# Altium footprint library FTOK_pcblib.PcbLib: 11 footprints
Each footprint in its own frame and in the unit in brackets; x right, y up, seen from the top. Pads: shape width x height; smd on the part's side, far side on the other; paste and mask are expansions set on the pad; w line width, h text height; cw(c..) or ccw(c..) is an arc to the next point about the centre after c.
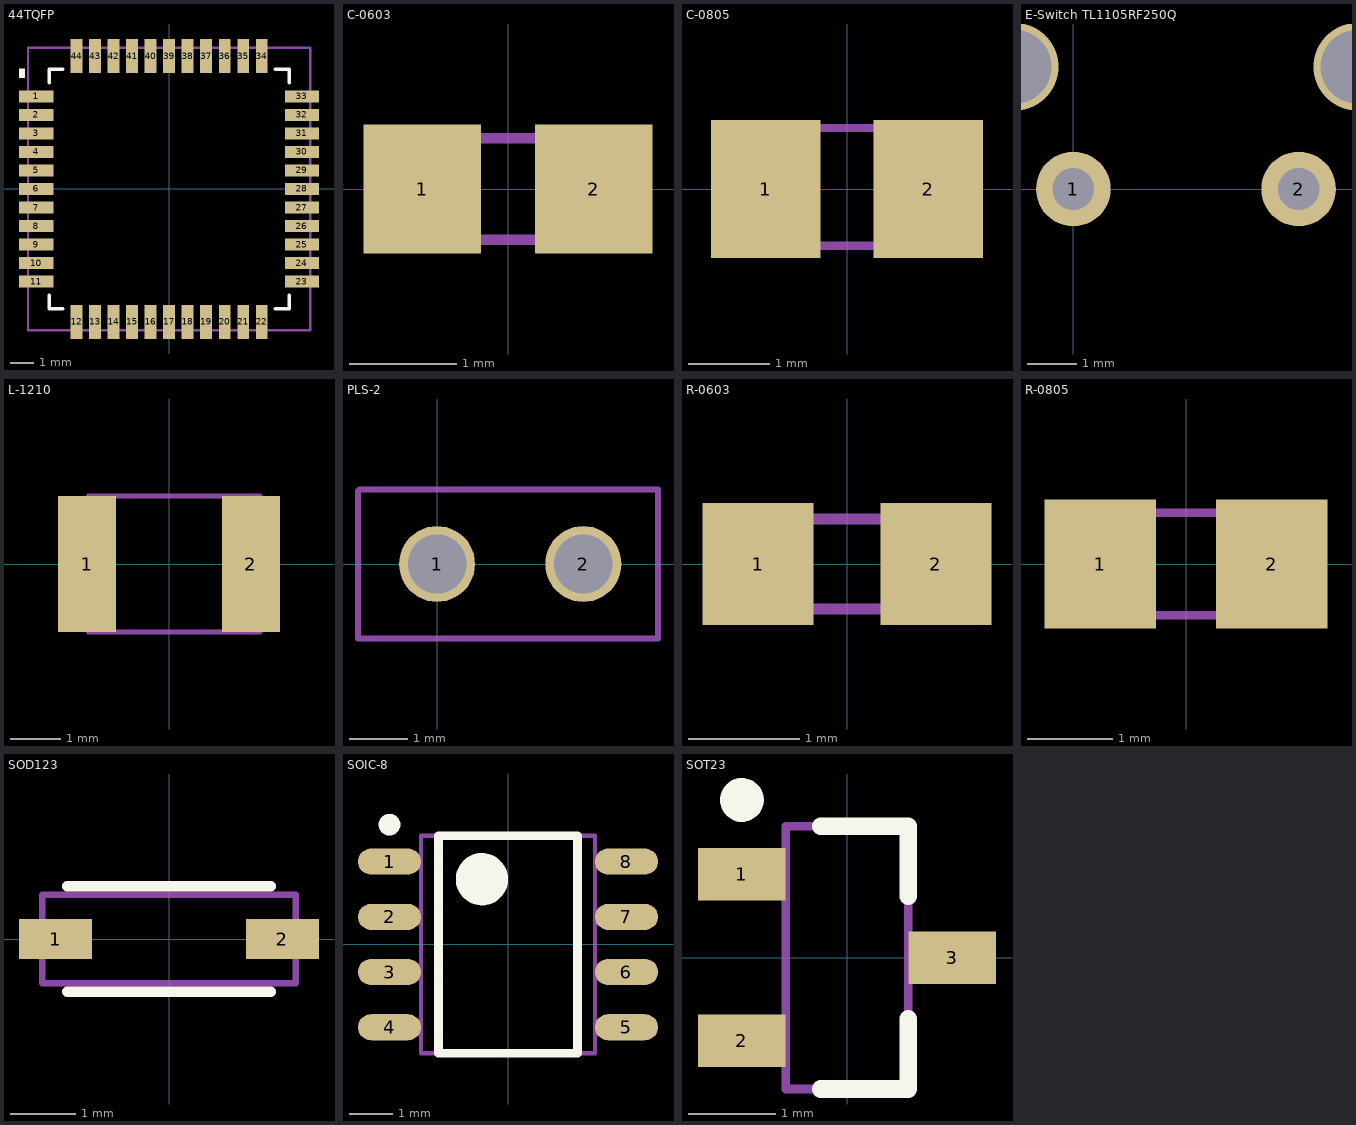
[diagram p0: the footprints below, top view; thin cyan lines are the x and y axes]

## 44TQFP [mil]
pads (44):
  rect 58x20 smd: 1(-226,157.48) 2(-226,125.98) 3(-226,94.49) 4(-226,62.99) 5(-226,31.5) 6(-226,0) 7(-226,-31.5) 8(-226,-62.99) 9(-226,-94.49) 10(-226,-125.98) 11(-226,-157.48) 23(226,-157.48) 24(226,-125.98) 25(226,-94.49) 26(226,-62.99) 27(226,-31.5) 28(226,0) 29(226,31.5) 30(226,62.99) 31(226,94.49) 32(226,125.98) 33(226,157.48)
  rect 20x58 smd: 12(-157.48,-226) 13(-125.98,-226) 14(-94.49,-226) 15(-62.99,-226) 16(-31.5,-226) 17(0,-226) 18(31.5,-226) 19(62.99,-226) 20(94.49,-226) 21(125.98,-226) 22(157.48,-226) 34(157.48,226) 35(125.98,226) 36(94.49,226) 37(62.99,226) 38(31.5,226) 39(0,226) 40(-31.5,226) 41(-62.99,226) 42(-94.49,226) 43(-125.98,226) 44(-157.48,226)
Top Overlay:
  region: -245.31,204.35 -255.31,204.35 -255.31,189.35 -245.31,189.35
  lines w6: -204,-180.58 -204,-204 -180.58,-204 ; -204,180.58 -204,204 -180.58,204 ; 180.58,-204 204,-204 204,-180.58 ; 180.58,204 204,204 204,180.58
Mechanical 2:
  lines w3.94: -240.16,-240.16 -240.16,240.16 240.16,240.16 240.16,-240.16 -240.16,-240.16
3D body "44A.step": height 47.09, standoff 0, extent -240.99,-240.99 240.98,240.98

## C-0603 [mm] "capacitor 0603"
pads (2):
  rect 1.1x1.2 smd: 1(-0.8,0) 2(0.8,0)
Mechanical 2:
  lines w0.1: -0.875,-0.475 0.875,-0.475 0.875,0.475 -0.875,0.475 -0.875,-0.475
3D body "C0603.step": height 0.87, standoff 0, extent -0.862,-0.481 0.888,0.469

## C-0805 [mm] "capacitor 0805"
pads (2):
  rect 1.35x1.7 smd: 1(-1,0) 2(1,0)
Mechanical 2:
  lines w0.1: -1.125,-0.7 1.1,-0.7 1.1,0.75 -1.125,0.75 -1.125,-0.7
3D body "C0805.step": height 0.88, standoff 0, extent -1.1,-0.715 1.1,0.735

## E-Switch TL1105RF250Q [mil]
pads (2):
  round 60 hole 33.46: 1(0,0) 2(181.1,0)
via -47.24,98.43 diameter 70.87 hole 59.06
via 228.35,98.43 diameter 70.87 hole 59.06
3D body "TL1105RF250Q.stp": height 366.14, standoff -66.93, extent -74.74,-242.52 255.83,157.87

## L-1210 [mm]
pads (2):
  rect 1.15x2.7 smd: 1(-1.626,0) 2(1.626,0)
Mechanical 2:
  lines w0.1: -1.6,-1.35 1.8,-1.35 1.8,1.35 -1.6,1.35 -1.6,-1.35
3D body "IND_EPCOS_B82422H.step": height 2.39, standoff 0, extent -1.602,-1.346 1.802,1.346

## PLS-2 [mm]
pads (2):
  round 1.3 hole 1: 1(0,0) 2(2.5,0)
Mechanical 2:
  lines w0.1: -1.35,-1.275 -1.35,1.25 -1.325,1.275 3.775,1.275 3.775,-1.275 -1.35,-1.275
3D body "pls-2.stp": height 8.47, standoff -3.07, extent -1.31,-1.27 3.77,1.27

## R-0603 [mm] "Resistor 0603"
pads (2):
  rect 1x1.1 smd: 1(-0.8,0) 2(0.8,0)
Mechanical 2:
  lines w0.1: -0.8,-0.406 0.8,-0.406 0.8,0.406 -0.8,0.406 -0.8,-0.406
3D body "RC0603.step": height 0.71, standoff 0, extent -0.8,-0.406 0.8,0.406

## R-0805 [mm] "resistor 0805"
pads (2):
  rect 1.3x1.5 smd: 1(-1,0) 2(1,0)
Mechanical 2:
  lines w0.1: -1,-0.597 -1,0.597 1.003,0.597 1.003,-0.597 -1,-0.597
3D body "RC0805.step": height 0.71, standoff 0, extent -1.003,-0.597 1.003,0.597

## SOD123 [mm]
pads (2):
  rect 1.111x0.601 smd: 1(-1.725,0) 2(1.725,0)
Top Overlay:
  lines w0.152: -1.552,-0.802 1.552,-0.802 ; -1.552,0.802 1.552,0.802
Mechanical 2:
  lines w0.1: -1.925,-0.675 -1.925,0.675 1.925,0.675 1.925,-0.675 -1.925,-0.675
3D body "SOD123.step": height 0.81, standoff 0, extent -1.925,-0.675 1.925,0.675

## SOIC-8 [mm] "SOIC, 8-Leads, Body 4,90x3,90mm, Pitch 1,27mm, IPC Medium Density"
height 1.75
pads (8):
  oval 1.45x0.6 smd: 1(-2.725,1.905) 2(-2.725,0.635) 3(-2.725,-0.635) 4(-2.725,-1.905) 5(2.725,-1.905) 6(2.725,-0.635) 7(2.725,0.635) 8(2.725,1.905)
Top Overlay:
  circle w0.6: c-0.6,1.5 r0.3
  circle w0.25: c-2.725,2.755 r0.125
  lines w0.2: -1.6,-2.5 1.6,-2.5 1.6,2.5 -1.6,2.5 -1.6,-2.5
Mechanical 2:
  lines w0.1: -2,-2.5 2,-2.5 2,2.5 -2,2.5 -2,-2.5
3D body "SOIC127P600X175-8N.step": height 1.75, standoff 0, extent -3,-2.5 3,2.5

## SOT23 [mm] "SOT23, 3-Leads, Body 2,90x2,45mm, Pitch 0,95mm, IPC Medium Density"
height 1.1
pads (3):
  rect 1x0.6 smd: 1(-1.2,0.95) 2(-1.2,-0.95) 3(1.2,0)
Top Overlay:
  circle w0.25: c-1.2,1.8 r0.125
  lines w0.2: -0.3,-1.5 0.7,-1.5 0.7,-0.7 ; -0.3,1.5 0.7,1.5 0.7,0.7
Mechanical 2:
  lines w0.1: -0.7,-1.5 -0.7,1.5 0.7,1.5 0.7,-1.5 -0.7,-1.5
3D body "SOT95P245X110-3N.step": height 1.1, standoff 0, extent -1.3,-1.5 1.3,1.5